# Altium schematic symbol library SCH - CONNECTORS - 1 PIN.SCHLIB: 1 symbol
Pins are listed as number, name and electrical type; pins without a type are passive.

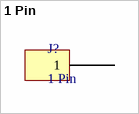
[diagram p0: symbol 1 Pin]

## 1 Pin
designator J?
pins: 1